# Altium integrated library Diode - Rectifier.IntLib: 777 symbols (part 7 of 12)
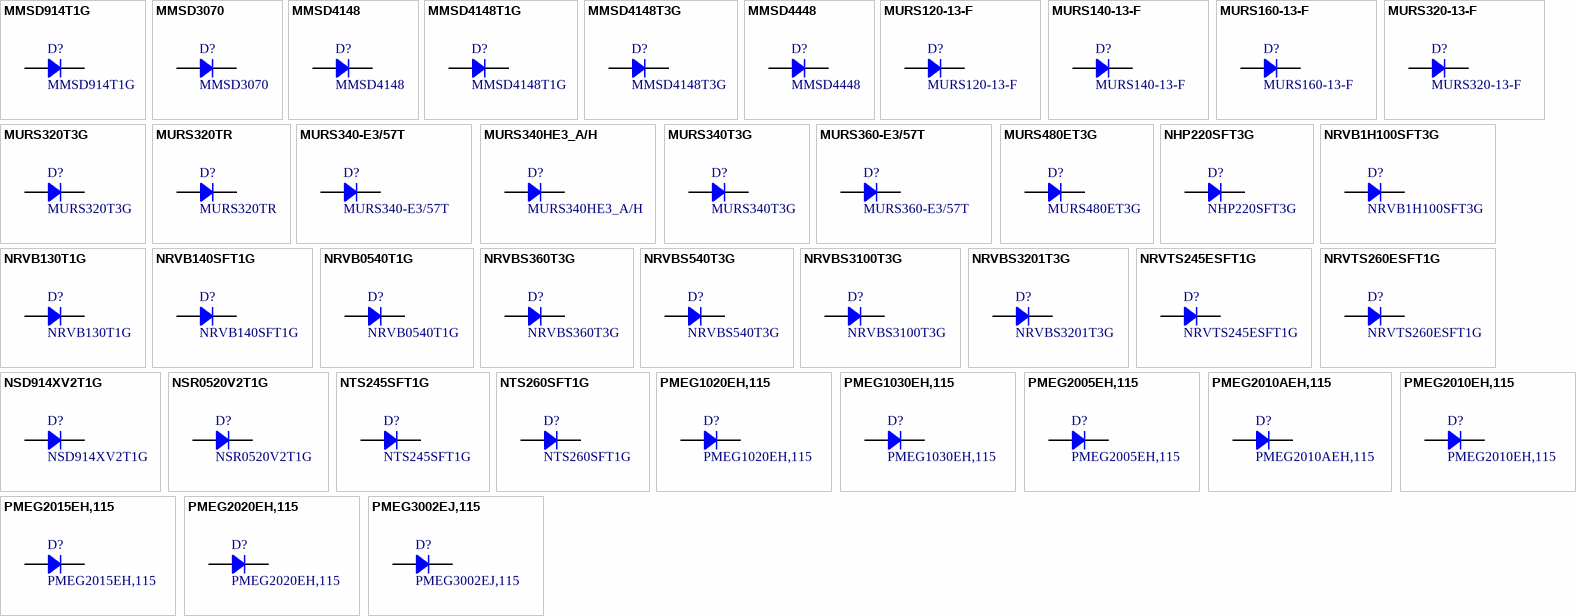
[diagram p25: symbols MMSD914T1G to PMEG3002EJ,115]

## NSD914XV2T1G
designator D?
DIODE GEN PURP 100V 200MA SOD523; Manufacturer: ON Semiconductor; Type: Surface Mount; Current Reverse Leakage @ Vr: 5uA @ 75V; Reverse Recovery Time (trr): 4ns; Current Rectified: 200mA (DC); Voltage Forward (Vf): 1V @ 10mA; Part Number: NSD914XV2T1G; PartId: 7152; Supplier 1: Digi-Key; Supplier Part Number 1: NSD914XV2T1GOSTR-ND; ComponentLink1Description: Datasheet; ComponentLink1URL: http://www.onsemi.com/pub_link/Collateral/NSD914XV2T1-D.PDF; ComponentLink2Description: Digi-Key Listing; ComponentLink2URL: http://www.digikey.ca/product-detail/en/NSD914XV2T1G/NSD914XV2T1GOSTR-ND/893857; Junction Operating Temperature: -55C ~ 150C; Price: 0.0841; Device Package: SC-79, SOD-523; Voltage DC Reverse (Vr): 100V
footprint SOD523F
pins: 1, 2

## NSR0520V2T1G
designator D?
DIODE SCHOTTKY 20V 500MA SOD523; Manufacturer: ON Semiconductor; Type: Surface Mount; Current Reverse Leakage @ Vr: 75uA @ 20V; Reverse Recovery Time (trr): 12ns; Current Rectified: 500mA (DC); Voltage Forward (Vf): 480mV @ 500mA; Part Number: NSR0520V2T1G; PartId: 7150; Supplier 1: Digi-Key; Supplier Part Number 1: NSR0520V2T1GOSTR-ND; ComponentLink1Description: Datasheet; ComponentLink1URL: http://www.onsemi.com/pub_link/Collateral/NSR0520V2T1-D.PDF; ComponentLink2Description: Digi-Key Listing; ComponentLink2URL: http://www.digikey.ca/product-detail/en/NSR0520V2T1G/NSR0520V2T1GOSTR-ND/1961244; Junction Operating Temperature: -55C ~ 125C; Price: 0.1156; Device Package: SC-79, SOD-523; Voltage DC Reverse (Vr): 20V
footprint SOD523F
pins: 1, 2

## NTS245SFT1G
designator D?
DIODE SCHOTTKY 45V 2A SOD123FL; Manufacturer: ON Semiconductor; Current Reverse Leakage @ Vr: 120uA @ 45V; Voltage Forward (Vf): 630mV @ 2A; Part Number: NTS245SFT1G; PartId: 29323; Supplier 1: Digi-Key; Supplier Part Number 1: NTS245SFT1GOSCT-ND; ComponentLink1Description: Datasheet; ComponentLink1URL: http://www.onsemi.com/pub/Collateral/NTS245SF-D.PDF; ComponentLink2Description: Digi-Key Listing; ComponentLink2URL: https://www.digikey.com/product-detail/en/on-semiconductor/NTS245SFT1G/NTS245SFT1GOSCT-ND/5131394; Junction Operating Temperature: -65C ~ 150C; Price: 0.38; Type: Schottky; Device Package: SOD-123F; Voltage DC Reverse (Vr): 45V; Current Rectified: 2A
footprint SOD123F
pins: 1, 2

## NTS260SFT1G
designator D?
DIODE SCHOTTKY 60V 2A SOD123FL; Manufacturer: ON Semiconductor; Current Reverse Leakage @ Vr: 50uA @ 45V; Voltage Forward (Vf): 650mV @ 2A; Part Number: NTS260SFT1G; PartId: 29191; Supplier 1: Digi-Key; Supplier Part Number 1: NTS260SFT1GOSCT-ND; ComponentLink1Description: Datasheet; ComponentLink1URL: http://www.onsemi.com/pub/Collateral/NTS260SF-D.PDF; ComponentLink2Description: Digi-Key Listing; ComponentLink2URL: https://www.digikey.com/product-detail/en/on-semiconductor/NTS260SFT1G/NTS260SFT1GOSCT-ND/5131395; Junction Operating Temperature: -65C ~ 150C; Price: 0.42; Type: Schottky; Device Package: SOD-123F; Voltage DC Reverse (Vr): 60V; Current Rectified: 2A
footprint SOD123F
pins: 1, 2

## PMEG1020EH,115
designator D?
DIODE SCHOTTKY 10V 2A SOD123F; Manufacturer: NXP USA Inc.; Current Reverse Leakage @ Vr: 3mA @ 10V; Current Rectified: 2A (DC); Voltage Forward (Vf): 460mV @ 2A; Part Number: PMEG1020EH,115; PartId: 29268; Supplier 1: Digi-Key; Supplier Part Number 1: 568-4105-1-ND; ComponentLink1Description: Datasheet; ComponentLink1URL: http://www.nxp.com/documents/data_sheet/PMEG1020EH_EJ.pdf; ComponentLink2Description: Digi-Key Listing; ComponentLink2URL: https://www.digikey.com/product-detail/en/nxp-usa-inc/PMEG1020EH,115/568-4105-1-ND/1589920; Junction Operating Temperature: 150C (Max); Price: 0.39; Type: Schottky; Device Package: SOD-123F; Voltage DC Reverse (Vr): 10V
footprint SOD123F
pins: 1, 2

## PMEG1030EH,115
designator D?
DIODE SCHOTTKY 10V 3A SOD123F; Manufacturer: NXP USA Inc.; Current Reverse Leakage @ Vr: 3mA @ 10V; Current Rectified: 3A (DC); Voltage Forward (Vf): 530mV @ 3A; Part Number: PMEG1030EH,115; PartId: 29222; Supplier 1: Digi-Key; Supplier Part Number 1: 568-4107-1-ND; ComponentLink1Description: Datasheet; ComponentLink1URL: http://www.nxp.com/documents/data_sheet/PMEG1030EH_EJ.pdf; ComponentLink2Description: Digi-Key Listing; ComponentLink2URL: https://www.digikey.com/product-detail/en/nxp-usa-inc/PMEG1030EH,115/568-4107-1-ND/1589922; Junction Operating Temperature: 150C (Max); Price: 0.48; Type: Schottky; Device Package: SOD-123F; Voltage DC Reverse (Vr): 10V
footprint SOD123F
pins: 1, 2

## PMEG2005EH,115
designator D?
DIODE SCHOTTKY 20V 500MA SOD123F; Manufacturer: NXP USA Inc.; Current Reverse Leakage @ Vr: 200uA @ 20V; Current Rectified: 500mA (DC); Voltage Forward (Vf): 390mV @ 500mA; Part Number: PMEG2005EH,115; PartId: 29204; Supplier 1: Digi-Key; Supplier Part Number 1: 568-4109-1-ND; ComponentLink1Description: Datasheet; ComponentLink1URL: http://www.nxp.com/documents/data_sheet/PMEGXX05EH_EJ_SER.pdf; ComponentLink2Description: Digi-Key Listing; ComponentLink2URL: https://www.digikey.com/product-detail/en/nxp-usa-inc/PMEG2005EH,115/568-4109-1-ND/1589924; Junction Operating Temperature: 150C (Max); Price: 0.44; Type: Schottky; Device Package: SOD-123F; Voltage DC Reverse (Vr): 20V
footprint SOD123F
pins: 1, 2

## PMEG2010AEH,115
designator D?
DIODE SCHOTTKY 20V 1A SOD123F; Manufacturer: NXP Semiconductors; Type: Surface Mount; Current Reverse Leakage @ Vr: 200uA @ 20V; Current Rectified: 1A (DC); Voltage Forward (Vf): 430mV @ 1A; Part Number: PMEG2010AEH,115; PartId: 7140; Supplier 1: Digi-Key; Supplier Part Number 1: 568-4112-2-ND; ComponentLink1Description: Datasheet; ComponentLink1URL: http://www.nxp.com/documents/data_sheet/PMEG2010AEH_PMEG2010AET.pdf; ComponentLink2Description: Digi-Key Listing; ComponentLink2URL: http://www.digikey.ca/product-detail/en/PMEG2010AEH,115/568-4112-2-ND/1157670; Junction Operating Temperature: 150C (Max); Price: 0.1507; Device Package: SOD-123F; Reverse Recovery Time (trr): -; Voltage DC Reverse (Vr): 20V
footprint SOD123F
pins: 1, 2

## PMEG2010EH,115
designator D?
DIODE SCHOTTKY 20V 1A SOD123F; Manufacturer: NXP USA Inc.; Current Reverse Leakage @ Vr: 200uA @ 20V; Current Rectified: 1A (DC); Voltage Forward (Vf): 500mV @ 1A; Part Number: PMEG2010EH,115; PartId: 29234; Supplier 1: Digi-Key; Supplier Part Number 1: 568-4114-1-ND; ComponentLink1Description: Datasheet; ComponentLink1URL: http://www.nxp.com/documents/data_sheet/PMEG2010EH_EJ_ET.pdf; ComponentLink2Description: Digi-Key Listing; ComponentLink2URL: https://www.digikey.com/product-detail/en/nxp-usa-inc/PMEG2010EH,115/568-4114-1-ND/1589929; Junction Operating Temperature: 150C (Max); Price: 0.38; Type: Schottky; Device Package: SOD-123F; Voltage DC Reverse (Vr): 20V
footprint SOD123F
pins: 1, 2

## PMEG2015EH,115
designator D?
DIODE SCHOTTKY 20V 1.5A SOD123F; Manufacturer: NXP USA Inc.; Current Reverse Leakage @ Vr: 70uA @ 20V; Current Rectified: 1.5A (DC); Voltage Forward (Vf): 660mV @ 1.5A; Part Number: PMEG2015EH,115; PartId: 29276; Supplier 1: Digi-Key; Supplier Part Number 1: 568-4116-1-ND; ComponentLink1Description: Datasheet; ComponentLink1URL: http://www.nxp.com/documents/data_sheet/PMEG2015EH_EJ.pdf; ComponentLink2Description: Digi-Key Listing; ComponentLink2URL: https://www.digikey.com/product-detail/en/nxp-usa-inc/PMEG2015EH,115/568-4116-1-ND/1589931; Junction Operating Temperature: 150C (Max); Price: 0.41; Type: Schottky; Device Package: SOD-123F; Voltage DC Reverse (Vr): 20V
footprint SOD123F
pins: 1, 2

## PMEG2020EH,115
designator D?
DIODE SCHOTTKY 20V 2A SOD123F; Manufacturer: NXP USA Inc.; Current Reverse Leakage @ Vr: 200uA @ 20V; Current Rectified: 2A (DC); Voltage Forward (Vf): 525mV @ 2A; Part Number: PMEG2020EH,115; PartId: 29277; Supplier 1: Digi-Key; Supplier Part Number 1: 568-4118-1-ND; ComponentLink1Description: Datasheet; ComponentLink1URL: http://www.nxp.com/documents/data_sheet/PMEG2020EH_EJ.pdf; ComponentLink2Description: Digi-Key Listing; ComponentLink2URL: https://www.digikey.com/product-detail/en/nxp-usa-inc/PMEG2020EH,115/568-4118-1-ND/1589933; Junction Operating Temperature: 150C (Max); Price: 0.41; Type: Schottky; Device Package: SOD-123F; Voltage DC Reverse (Vr): 20V
footprint SOD123F
pins: 1, 2

## PMEG3002EJ,115
designator D?
DIODE SCHOTTKY 30V 200MA SOD323F; Manufacturer: NXP Semiconductors; Type: Surface Mount; Current Reverse Leakage @ Vr: 40uA @ 30V; Reverse Recovery Time (trr): 5ns; Voltage Forward (Vf): 480mV @ 200mA; Part Number: PMEG3002EJ,115; PartId: 7141; Supplier 1: Digi-Key; Supplier Part Number 1: 568-7394-2-ND; ComponentLink1Description: Datasheet; ComponentLink1URL: http://www.nxp.com/documents/data_sheet/PMEG3002EJ.pdf; ComponentLink2Description: Digi-Key Listing; ComponentLink2URL: http://www.digikey.ca/product-detail/en/PMEG3002EJ,115/568-7394-2-ND/2119862; Junction Operating Temperature: 150C (Max); Price: 0.1204; Device Package: SC-90, SOD-323F; Voltage DC Reverse (Vr): 30V; Current Rectified: 200mA
footprint SOD323F
pins: 1, 2

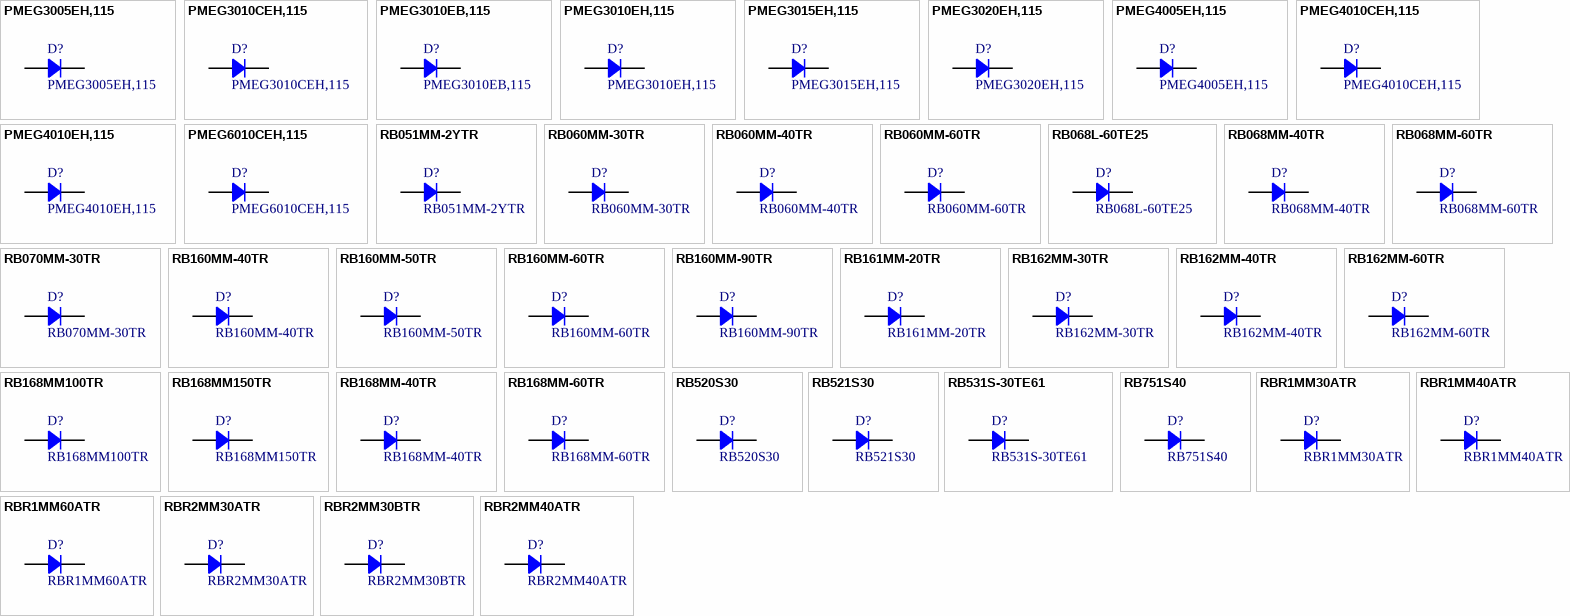
[diagram p10: symbols PMEG3005EH,115 to RBR2MM40ATR]

## PMEG3005EH,115
designator D?
DIODE SCHOTTKY 30V 500MA SOD123F; Manufacturer: NXP USA Inc.; Current Reverse Leakage @ Vr: 150uA @ 30V; Current Rectified: 500mA (DC); Voltage Forward (Vf): 430mV @ 500mA; Part Number: PMEG3005EH,115; PartId: 29205; Supplier 1: Digi-Key; Supplier Part Number 1: 568-4121-1-ND; ComponentLink1Description: Datasheet; ComponentLink1URL: http://www.nxp.com/documents/data_sheet/PMEGXX05EH_EJ_SER.pdf; ComponentLink2Description: Digi-Key Listing; ComponentLink2URL: https://www.digikey.com/product-detail/en/nxp-usa-inc/PMEG3005EH,115/568-4121-1-ND/1589936; Junction Operating Temperature: 150C (Max); Price: 0.44; Type: Schottky; Device Package: SOD-123F; Voltage DC Reverse (Vr): 30V
footprint SOD123F
pins: 1, 2

## PMEG3010CEH,115
designator D?
DIODE SCHOTTKY 30V 1A SOD123F; Manufacturer: NXP USA Inc.; Current Reverse Leakage @ Vr: 50uA @ 30V; Current Rectified: 1A (DC); Voltage Forward (Vf): 520mV @ 1A; Part Number: PMEG3010CEH,115; PartId: 29269; Supplier 1: Digi-Key; Supplier Part Number 1: 568-7399-1-ND; ComponentLink1Description: Datasheet; ComponentLink1URL: http://www.nxp.com/documents/data_sheet/PMEG3010CEH_PMEG3010CEJ.pdf; ComponentLink2Description: Digi-Key Listing; ComponentLink2URL: https://www.digikey.com/product-detail/en/nxp-usa-inc/PMEG3010CEH,115/568-7399-1-ND/2697414; Junction Operating Temperature: 150C (Max); Price: 0.39; Type: Schottky; Device Package: SOD-123F; Voltage DC Reverse (Vr): 30V
footprint SOD123F
pins: 1, 2

## PMEG3010EB,115
designator D?
DIODE SCHOTTKY 30V 1A SOD523; Manufacturer: NXP Semiconductors; Type: Surface Mount; Current Reverse Leakage @ Vr: 500uA @ 30V; Current Rectified: 1A (DC); Voltage Forward (Vf): 680mV @ 1A; Part Number: PMEG3010EB,115; PartId: 7146; Supplier 1: Digi-Key; Supplier Part Number 1: 568-7400-2-ND; ComponentLink1Description: Datasheet; ComponentLink1URL: http://www.nxp.com/documents/data_sheet/PMEG3010EB.pdf; ComponentLink2Description: Digi-Key Listing; ComponentLink2URL: http://www.digikey.ca/product-detail/en/PMEG3010EB,115/568-7400-2-ND/1693021; Junction Operating Temperature: 150C (Max); Price: 0.1547; Device Package: SC-79, SOD-523; Reverse Recovery Time (trr): -; Voltage DC Reverse (Vr): 30V
footprint SOD523F
pins: 1, 2

## PMEG3010EH,115
designator D?
DIODE SCHOTTKY 30V 1A SOD123F; Manufacturer: NXP USA Inc.; Current Reverse Leakage @ Vr: 150uA @ 30V; Current Rectified: 1A (DC); Voltage Forward (Vf): 560mV @ 1A; Part Number: PMEG3010EH,115; PartId: 29292; Supplier 1: Digi-Key; Supplier Part Number 1: 568-4125-1-ND; ComponentLink1Description: Datasheet; ComponentLink1URL: http://www.nxp.com/documents/data_sheet/PMEG3010EH_EJ_ET.pdf; ComponentLink2Description: Digi-Key Listing; ComponentLink2URL: https://www.digikey.com/product-detail/en/nxp-usa-inc/PMEG3010EH,115/568-4125-1-ND/1589940; Junction Operating Temperature: 150C (Max); Price: 0.48; Type: Schottky; Device Package: SOD-123F; Voltage DC Reverse (Vr): 30V
footprint SOD123F
pins: 1, 2

## PMEG3015EH,115
designator D?
DIODE SCHOTTKY 30V 1.5A SOD123F; Manufacturer: NXP USA Inc.; Current Reverse Leakage @ Vr: 1mA @ 30V; Current Rectified: 1.5A (DC); Voltage Forward (Vf): 550mV @ 1.5A; Part Number: PMEG3015EH,115; PartId: 29171; Supplier 1: Digi-Key; Supplier Part Number 1: 568-4127-1-ND; ComponentLink1Description: Datasheet; ComponentLink1URL: http://www.nxp.com/documents/data_sheet/PMEG3015EH_EJ.pdf; ComponentLink2Description: Digi-Key Listing; ComponentLink2URL: https://www.digikey.com/product-detail/en/nxp-usa-inc/PMEG3015EH,115/568-4127-1-ND/1589942; Junction Operating Temperature: 150C (Max); Price: 0.39; Type: Schottky; Device Package: SOD-123F; Voltage DC Reverse (Vr): 30V
footprint SOD123F
pins: 1, 2

## PMEG3020EH,115
designator D?
DIODE SCHOTTKY 30V 2A SOD123F; Manufacturer: NXP USA Inc.; Current Reverse Leakage @ Vr: 1mA @ 30V; Current Rectified: 2A (DC); Voltage Forward (Vf): 620mV @ 2A; Part Number: PMEG3020EH,115; PartId: 29218; Supplier 1: Digi-Key; Supplier Part Number 1: 568-4129-1-ND; ComponentLink1Description: Datasheet; ComponentLink1URL: http://www.nxp.com/documents/data_sheet/PMEG3020EH_EJ.pdf; ComponentLink2Description: Digi-Key Listing; ComponentLink2URL: https://www.digikey.com/product-detail/en/nxp-usa-inc/PMEG3020EH,115/568-4129-1-ND/1589944; Junction Operating Temperature: 150C (Max); Price: 0.41; Type: Schottky; Device Package: SOD-123F; Voltage DC Reverse (Vr): 30V
footprint SOD123F
pins: 1, 2

## PMEG4005EH,115
designator D?
DIODE SCHOTTKY 40V 500MA SOD123F; Manufacturer: NXP USA Inc.; Current Reverse Leakage @ Vr: 100uA @ 40V; Current Rectified: 500mA (DC); Voltage Forward (Vf): 470mV @ 500mA; Part Number: PMEG4005EH,115; PartId: 29285; Supplier 1: Digi-Key; Supplier Part Number 1: 568-4132-1-ND; ComponentLink1Description: Datasheet; ComponentLink1URL: http://www.nxp.com/documents/data_sheet/PMEGXX05EH_EJ_SER.pdf; ComponentLink2Description: Digi-Key Listing; ComponentLink2URL: https://www.digikey.com/product-detail/en/nxp-usa-inc/PMEG4005EH,115/568-4132-1-ND/1589947; Junction Operating Temperature: 150C (Max); Price: 0.44; Type: Schottky; Device Package: SOD-123F; Voltage DC Reverse (Vr): 40V
footprint SOD123F
pins: 1, 2

## PMEG4010CEH,115
designator D?
DIODE SCHOTTKY 40V 1A SOD123F; Manufacturer: NXP USA Inc.; Current Reverse Leakage @ Vr: 50uA @ 40V; Current Rectified: 1A (DC); Voltage Forward (Vf): 570mV @ 1A; Part Number: PMEG4010CEH,115; PartId: 29213; Supplier 1: Digi-Key; Supplier Part Number 1: 568-4102-1-ND; ComponentLink1Description: Datasheet; ComponentLink1URL: http://www.nxp.com/documents/data_sheet/PMEG4010CEH_PMEG4010CEJ.pdf; ComponentLink2Description: Digi-Key Listing; ComponentLink2URL: https://www.digikey.com/product-detail/en/nxp-usa-inc/PMEG4010CEH,115/568-4102-1-ND/1589915; Junction Operating Temperature: 150C (Max); Price: 0.39; Type: Schottky; Device Package: SOD-123F; Voltage DC Reverse (Vr): 40V
footprint SOD123F
pins: 1, 2

## PMEG4010EH,115
designator D?
DIODE SCHOTTKY 40V 1A SOD123F; Manufacturer: NXP USA Inc.; Current Reverse Leakage @ Vr: 100uA @ 40V; Current Rectified: 1A (DC); Voltage Forward (Vf): 640mV @ 1A; Part Number: PMEG4010EH,115; PartId: 29293; Supplier 1: Digi-Key; Supplier Part Number 1: 568-4136-1-ND; ComponentLink1Description: Datasheet; ComponentLink1URL: http://www.nxp.com/documents/data_sheet/PMEG4010EH_EJ_ET.pdf; ComponentLink2Description: Digi-Key Listing; ComponentLink2URL: https://www.digikey.com/product-detail/en/nxp-usa-inc/PMEG4010EH,115/568-4136-1-ND/1589951; Junction Operating Temperature: 150C (Max); Price: 0.48; Type: Schottky; Device Package: SOD-123F; Voltage DC Reverse (Vr): 40V
footprint SOD123F
pins: 1, 2

## PMEG6010CEH,115
designator D?
DIODE SCHOTTKY 60V 1A SOD123F; Manufacturer: NXP USA Inc.; Current Reverse Leakage @ Vr: 50uA @ 60V; Current Rectified: 1A (DC); Voltage Forward (Vf): 660mV @ 1A; Part Number: PMEG6010CEH,115; PartId: 29169; Supplier 1: Digi-Key; Supplier Part Number 1: 568-4104-1-ND; ComponentLink1Description: Datasheet; ComponentLink1URL: http://www.nxp.com/documents/data_sheet/PMEG6010CEH_PMEG6010CEJ.pdf; ComponentLink2Description: Digi-Key Listing; ComponentLink2URL: https://www.digikey.com/product-detail/en/nxp-usa-inc/PMEG6010CEH,115/568-4104-1-ND/1589917; Junction Operating Temperature: 150C (Max); Price: 0.38; Type: Schottky; Device Package: SOD-123F; Voltage DC Reverse (Vr): 60V
footprint SOD123F
pins: 1, 2

## RB051MM-2YTR
designator D?
DIODE SCHOTTKY 20V 3A PMDU; Manufacturer: Rohm Semiconductor; Current Reverse Leakage @ Vr: 900uA @ 20V; Voltage Forward (Vf): 460mV @ 3A; Part Number: RB051MM-2YTR; PartId: 29249; Supplier 1: Digi-Key; Supplier Part Number 1: RB051MM-2YCT-ND; ComponentLink1Description: Datasheet; ComponentLink1URL: http://rohmfs.rohm.com/en/products/databook/datasheet/discrete/diode/schottky_barrier/rb051mm-2y.pdf; ComponentLink2Description: Digi-Key Listing; ComponentLink2URL: https://www.digikey.com/product-detail/en/rohm-semiconductor/RB051MM-2YTR/RB051MM-2YCT-ND/5813351; Junction Operating Temperature: 125C (Max); Price: 0.53; Type: Schottky; Device Package: SOD-123F; Voltage DC Reverse (Vr): 20V; Current Rectified: 3A
footprint SOD123F
pins: 1, 2

## RB060MM-30TR
designator D?
DIODE SCHOTTKY 30V 2A PMDU; Manufacturer: Rohm Semiconductor; Current Reverse Leakage @ Vr: 50uA @ 30V; Voltage Forward (Vf): 490mV @ 2A; Part Number: RB060MM-30TR; PartId: 29296; Supplier 1: Digi-Key; Supplier Part Number 1: RB060MM-30CT-ND; ComponentLink1Description: Datasheet; ComponentLink1URL: http://rohmfs.rohm.com/en/products/databook/datasheet/discrete/diode/schottky_barrier/rb060mm-30.pdf; ComponentLink2Description: Digi-Key Listing; ComponentLink2URL: https://www.digikey.com/product-detail/en/rohm-semiconductor/RB060MM-30TR/RB060MM-30CT-ND/5001874; Junction Operating Temperature: 150C (Max); Price: 0.5; Type: Schottky; Device Package: SOD-123F; Voltage DC Reverse (Vr): 30V; Current Rectified: 2A
footprint SOD123F
pins: 1, 2

## RB060MM-40TR
designator D?
DIODE SCHOTTKY 40V 2A PMDU; Manufacturer: Rohm Semiconductor; Current Reverse Leakage @ Vr: 500uA @ 40V; Voltage Forward (Vf): 560mV @ 2A; Part Number: RB060MM-40TR; PartId: 29248; Supplier 1: Digi-Key; Supplier Part Number 1: RB060MM-40CT-ND; ComponentLink1Description: Datasheet; ComponentLink1URL: http://rohmfs.rohm.com/en/products/databook/datasheet/discrete/diode/schottky_barrier/rb060mm-40.pdf; ComponentLink2Description: Digi-Key Listing; ComponentLink2URL: https://www.digikey.com/product-detail/en/rohm-semiconductor/RB060MM-40TR/RB060MM-40CT-ND/5813357; Junction Operating Temperature: 150C (Max); Price: 0.45; Type: Schottky; Device Package: SOD-123F; Voltage DC Reverse (Vr): 40V; Current Rectified: 2A
footprint SOD123F
pins: 1, 2

## RB060MM-60TR
designator D?
DIODE SCHOTTKY 60V 2A PMDU; Manufacturer: Rohm Semiconductor; Current Reverse Leakage @ Vr: 50uA @ 60V; Voltage Forward (Vf): 610mV @ 2A; Part Number: RB060MM-60TR; PartId: 29696; Supplier 1: Digi-Key; Supplier Part Number 1: RB060MM-60CT-ND; ComponentLink1Description: Datasheet; ComponentLink1URL: http://rohmfs.rohm.com/en/products/databook/datasheet/discrete/diode/schottky_barrier/rb060mm-60.pdf; ComponentLink2Description: Digi-Key Listing; ComponentLink2URL: https://www.digikey.com/product-detail/en/rohm-semiconductor/RB060MM-60TR/RB060MM-60CT-ND/5001875; Junction Operating Temperature: 150C (Max); Price: 0.41; Type: Schottky; Device Package: SOD-123F; Voltage DC Reverse (Vr): 60V; Current Rectified: 2A
footprint SOD123F
pins: 1, 2

## RB068L-60TE25
designator D?
DIODE SCHOTTKY 60V 2A PMDU; Manufacturer: Rohm Semiconductor; Current Reverse Leakage @ Vr: 2uA @ 60V; Voltage Forward (Vf): 700mV @ 2A; Part Number: RB068L-60TE25; PartId: 29327; Supplier 1: Digi-Key; Supplier Part Number 1: RB068L-60TE25CT-ND; ComponentLink1Description: Datasheet; ComponentLink1URL: http://rohmfs.rohm.com/en/products/databook/datasheet/discrete/diode/schottky_barrier/rb068l-60.pdf; ComponentLink2Description: Digi-Key Listing; ComponentLink2URL: https://www.digikey.com/product-detail/en/rohm-semiconductor/RB068L-60TE25/RB068L-60TE25CT-ND/5813358; Junction Operating Temperature: 150C (Max); Price: 0.43; Type: Schottky; Device Package: SOD-123F; Voltage DC Reverse (Vr): 60V; Current Rectified: 2A
footprint SOD123F
pins: 1, 2

## RB068MM-40TR
designator D?
DIODE SCHOTTKY 40V 2A PMDU; Manufacturer: Rohm Semiconductor; Current Reverse Leakage @ Vr: 550nA @ 40V; Voltage Forward (Vf): 725mV @ 2A; Part Number: RB068MM-40TR; PartId: 29313; Supplier 1: Digi-Key; Supplier Part Number 1: RB068MM-40CT-ND; ComponentLink1Description: Datasheet; ComponentLink1URL: http://rohmfs.rohm.com/en/products/databook/datasheet/discrete/diode/schottky_barrier/rb068mm-40.pdf; ComponentLink2Description: Digi-Key Listing; ComponentLink2URL: https://www.digikey.com/product-detail/en/rohm-semiconductor/RB068MM-40TR/RB068MM-40CT-ND/5813361; Junction Operating Temperature: 150C (Max); Price: 0.55; Type: Schottky; Device Package: SOD-123F; Voltage DC Reverse (Vr): 40V; Current Rectified: 2A
footprint SOD123F
pins: 1, 2

## RB068MM-60TR
designator D?
DIODE SCHOTTKY 60V 2A PMDU; Manufacturer: Rohm Semiconductor; Current Reverse Leakage @ Vr: 1.5uA @ 60V; Voltage Forward (Vf): 765mV @ 2A; Part Number: RB068MM-60TR; PartId: 29312; Supplier 1: Digi-Key; Supplier Part Number 1: RB068MM-60CT-ND; ComponentLink1Description: Datasheet; ComponentLink1URL: http://rohmfs.rohm.com/en/products/databook/datasheet/discrete/diode/schottky_barrier/rb068mm-60.pdf; ComponentLink2Description: Digi-Key Listing; ComponentLink2URL: https://www.digikey.com/product-detail/en/rohm-semiconductor/RB068MM-60TR/RB068MM-60CT-ND/5813362; Junction Operating Temperature: 150C (Max); Price: 0.55; Type: Schottky; Device Package: SOD-123F; Voltage DC Reverse (Vr): 60V; Current Rectified: 2A
footprint SOD123F
pins: 1, 2

## RB070MM-30TR
designator D?
DIODE SCHOTTKY 30V 1.5A PMDU; Manufacturer: Rohm Semiconductor; Current Reverse Leakage @ Vr: 50uA @ 30V; Voltage Forward (Vf): 490mV @ 1.5A; Part Number: RB070MM-30TR; PartId: 29228; Supplier 1: Digi-Key; Supplier Part Number 1: RB070MM-30CT-ND; ComponentLink1Description: Datasheet; ComponentLink1URL: http://rohmfs.rohm.com/en/products/databook/datasheet/discrete/diode/schottky_barrier/rb070mm-30.pdf; ComponentLink2Description: Digi-Key Listing; ComponentLink2URL: https://www.digikey.com/product-detail/en/rohm-semiconductor/RB070MM-30TR/RB070MM-30CT-ND/5001876; Junction Operating Temperature: 150C (Max); Price: 0.41; Type: Schottky; Device Package: SOD-123F; Voltage DC Reverse (Vr): 30V; Current Rectified: 1.5A
footprint SOD123F
pins: 1, 2

## RB160MM-40TR
designator D?
DIODE SCHOTTKY 40V 1A PMDU; Manufacturer: Rohm Semiconductor; Current Reverse Leakage @ Vr: 30uA @ 40V; Voltage Forward (Vf): 510mV @ 1A; Part Number: RB160MM-40TR; PartId: 29295; Supplier 1: Digi-Key; Supplier Part Number 1: RB160MM-40CT-ND; ComponentLink1Description: Datasheet; ComponentLink1URL: http://rohmfs.rohm.com/en/products/databook/datasheet/discrete/diode/schottky_barrier/rb160mm-40.pdf; ComponentLink2Description: Digi-Key Listing; ComponentLink2URL: https://www.digikey.com/product-detail/en/rohm-semiconductor/RB160MM-40TR/RB160MM-40CT-ND/5001878; Junction Operating Temperature: 150C (Max); Price: 0.49; Type: Schottky; Device Package: SOD-123F; Voltage DC Reverse (Vr): 40V; Current Rectified: 1A
footprint SOD123F
pins: 1, 2

## RB160MM-50TR
designator D?
DIODE SCHOTTKY 40V 1A PMDU; Manufacturer: Rohm Semiconductor; Current Reverse Leakage @ Vr: 30uA @ 40V; Voltage Forward (Vf): 510mV @ 1A; Part Number: RB160MM-50TR; PartId: 29283; Supplier 1: Digi-Key; Supplier Part Number 1: RB160MM-50CT-ND; ComponentLink1Description: Datasheet; ComponentLink1URL: http://rohmfs.rohm.com/en/products/databook/datasheet/discrete/diode/schottky_barrier/rb160mm-50.pdf; ComponentLink2Description: Digi-Key Listing; ComponentLink2URL: https://www.digikey.com/product-detail/en/rohm-semiconductor/RB160MM-50TR/RB160MM-50CT-ND/5001879; Junction Operating Temperature: 150C (Max); Price: 0.43; Type: Schottky; Device Package: SOD-123F; Voltage DC Reverse (Vr): 40V; Current Rectified: 1A
footprint SOD123F
pins: 1, 2

## RB160MM-60TR
designator D?
DIODE SCHOTTKY 60V 1A PMDU; Manufacturer: Rohm Semiconductor; Current Reverse Leakage @ Vr: 50uA @ 60V; Voltage Forward (Vf): 550mV @ 1A; Part Number: RB160MM-60TR; PartId: 29192; Supplier 1: Digi-Key; Supplier Part Number 1: RB160MM-60CT-ND; ComponentLink1Description: Datasheet; ComponentLink1URL: http://rohmfs.rohm.com/en/products/databook/datasheet/discrete/diode/schottky_barrier/rb160mm-60.pdf; ComponentLink2Description: Digi-Key Listing; ComponentLink2URL: https://www.digikey.com/product-detail/en/rohm-semiconductor/RB160MM-60TR/RB160MM-60CT-ND/5001880; Junction Operating Temperature: 150C (Max); Price: 0.49; Type: Schottky; Device Package: SOD-123F; Voltage DC Reverse (Vr): 60V; Current Rectified: 1A
footprint SOD123F
pins: 1, 2

## RB160MM-90TR
designator D?
DIODE SCHOTTKY 90V 1A PMDU; Manufacturer: Rohm Semiconductor; Current Reverse Leakage @ Vr: 100uA @ 90V; Voltage Forward (Vf): 730mV @ 1A; Part Number: RB160MM-90TR; PartId: 29239; Supplier 1: Digi-Key; Supplier Part Number 1: RB160MM-90TRCT-ND; ComponentLink1Description: Datasheet; ComponentLink1URL: http://rohmfs.rohm.com/en/products/databook/datasheet/discrete/diode/schottky_barrier/rb160mm-90.pdf; ComponentLink2Description: Digi-Key Listing; ComponentLink2URL: https://www.digikey.com/product-detail/en/rohm-semiconductor/RB160MM-90TR/RB160MM-90TRCT-ND/5720306; Junction Operating Temperature: 150C (Max); Price: 0.55; Type: Schottky; Device Package: SOD-123F; Voltage DC Reverse (Vr): 90V; Current Rectified: 1A
footprint SOD123F
pins: 1, 2

## RB161MM-20TR
designator D?
DIODE SCHOTTKY 25V 1A PMDU; Manufacturer: Rohm Semiconductor; Current Reverse Leakage @ Vr: 700uA @ 20V; Voltage Forward (Vf): 350mV @ 1A; Part Number: RB161MM-20TR; PartId: 29196; Supplier 1: Digi-Key; Supplier Part Number 1: RB161MM-20CT-ND; ComponentLink1Description: Datasheet; ComponentLink1URL: http://rohmfs.rohm.com/en/products/databook/datasheet/discrete/diode/schottky_barrier/rb161mm-20.pdf; ComponentLink2Description: Digi-Key Listing; ComponentLink2URL: https://www.digikey.com/product-detail/en/rohm-semiconductor/RB161MM-20TR/RB161MM-20CT-ND/5001881; Junction Operating Temperature: 125C (Max); Price: 0.53; Type: Schottky; Device Package: SOD-123F; Voltage DC Reverse (Vr): 25V; Current Rectified: 1A
footprint SOD123F
pins: 1, 2

## RB162MM-30TR
designator D?
DIODE SCHOTTKY 30V 1A PMDU; Manufacturer: Rohm Semiconductor; Current Reverse Leakage @ Vr: 100uA @ 30V; Voltage Forward (Vf): 520mV @ 1A; Part Number: RB162MM-30TR; PartId: 29314; Supplier 1: Digi-Key; Supplier Part Number 1: RB162MM-30CT-ND; ComponentLink1Description: Datasheet; ComponentLink1URL: http://rohmfs.rohm.com/en/products/databook/datasheet/discrete/diode/schottky_barrier/rb162mm-30.pdf; ComponentLink2Description: Digi-Key Listing; ComponentLink2URL: https://www.digikey.com/product-detail/en/rohm-semiconductor/RB162MM-30TR/RB162MM-30CT-ND/5720307; Junction Operating Temperature: 150C (Max); Price: 0.56; Type: Schottky; Device Package: SOD-123F; Voltage DC Reverse (Vr): 30V; Current Rectified: 1A
footprint SOD123F
pins: 1, 2

## RB162MM-40TR
designator D?
DIODE SCHOTTKY 40V 1A PMDU; Manufacturer: Rohm Semiconductor; Current Reverse Leakage @ Vr: 100uA @ 40V; Voltage Forward (Vf): 550mV @ 1A; Part Number: RB162MM-40TR; PartId: 29257; Supplier 1: Digi-Key; Supplier Part Number 1: RB162MM-40CT-ND; ComponentLink1Description: Datasheet; ComponentLink1URL: http://rohmfs.rohm.com/en/products/databook/datasheet/discrete/diode/schottky_barrier/rb162mm-40.pdf; ComponentLink2Description: Digi-Key Listing; ComponentLink2URL: https://www.digikey.com/product-detail/en/rohm-semiconductor/RB162MM-40TR/RB162MM-40CT-ND/5001882; Junction Operating Temperature: 150C (Max); Price: 0.35; Type: Schottky; Device Package: SOD-123F; Voltage DC Reverse (Vr): 40V; Current Rectified: 1A
footprint SOD123F
pins: 1, 2

## RB162MM-60TR
designator D?
DIODE SCHOTTKY 60V 1A PMDU; Manufacturer: Rohm Semiconductor; Current Reverse Leakage @ Vr: 100uA @ 60V; Voltage Forward (Vf): 650mV @ 1A; Part Number: RB162MM-60TR; PartId: 29262; Supplier 1: Digi-Key; Supplier Part Number 1: RB162MM-60CT-ND; ComponentLink1Description: Datasheet; ComponentLink1URL: http://rohmfs.rohm.com/en/products/databook/datasheet/discrete/diode/schottky_barrier/rb162mm-60.pdf; ComponentLink2Description: Digi-Key Listing; ComponentLink2URL: https://www.digikey.com/product-detail/en/rohm-semiconductor/RB162MM-60TR/RB162MM-60CT-ND/5001883; Junction Operating Temperature: 150C (Max); Price: 0.37; Type: Schottky; Device Package: SOD-123F; Voltage DC Reverse (Vr): 60V; Current Rectified: 1A
footprint SOD123F
pins: 1, 2

## RB168MM100TR
designator D?
DIODE SCHOTTKY 100V 1A SOD123FL; Manufacturer: Rohm Semiconductor; Current Reverse Leakage @ Vr: 400nA @ 100V; Voltage Forward (Vf): 810mV @ 1A; Part Number: RB168MM100TR; PartId: 29202; Supplier 1: Digi-Key; Supplier Part Number 1: RB168MM100CT-ND; ComponentLink1Description: Datasheet; ComponentLink1URL: http://rohmfs.rohm.com/en/products/databook/datasheet/discrete/diode/schottky_barrier/rb168mm100.pdf; ComponentLink2Description: Digi-Key Listing; ComponentLink2URL: https://www.digikey.com/product-detail/en/rohm-semiconductor/RB168MM100TR/RB168MM100CT-ND/5722695; Junction Operating Temperature: 150C (Max); Price: 0.49; Type: Schottky; Device Package: SOD-123F; Voltage DC Reverse (Vr): 100V; Current Rectified: 1A
footprint SOD123F
pins: 1, 2

## RB168MM150TR
designator D?
DIODE SCHOTTKY 150V 1A PMDU; Manufacturer: Rohm Semiconductor; Current Reverse Leakage @ Vr: 4uA @ 150V; Voltage Forward (Vf): 840mV @ 1A; Part Number: RB168MM150TR; PartId: 29299; Supplier 1: Digi-Key; Supplier Part Number 1: RB168MM150CT-ND; ComponentLink1Description: Datasheet; ComponentLink1URL: http://rohmfs.rohm.com/en/products/databook/datasheet/discrete/diode/schottky_barrier/rb168mm150.pdf; ComponentLink2Description: Digi-Key Listing; ComponentLink2URL: https://www.digikey.com/product-detail/en/rohm-semiconductor/RB168MM150TR/RB168MM150CT-ND/5813364; Junction Operating Temperature: 150C (Max); Price: 0.51; Type: Schottky; Device Package: SOD-123F; Voltage DC Reverse (Vr): 150V; Current Rectified: 1A
footprint SOD123F
pins: 1, 2

## RB168MM-40TR
designator D?
DIODE SCHOTTKY 40V 1A PMDU; Manufacturer: Rohm Semiconductor; Current Reverse Leakage @ Vr: 550nA @ 40V; Voltage Forward (Vf): 650mV @ 1A; Part Number: RB168MM-40TR; PartId: 29297; Supplier 1: Digi-Key; Supplier Part Number 1: RB168MM-40CT-ND; ComponentLink1Description: Datasheet; ComponentLink1URL: http://rohmfs.rohm.com/en/products/databook/datasheet/discrete/diode/schottky_barrier/rb168mm-40.pdf; ComponentLink2Description: Digi-Key Listing; ComponentLink2URL: https://www.digikey.com/product-detail/en/rohm-semiconductor/RB168MM-40TR/RB168MM-40CT-ND/5720312; Junction Operating Temperature: 150C (Max); Price: 0.51; Type: Schottky; Device Package: SOD-123F; Voltage DC Reverse (Vr): 40V; Current Rectified: 1A
footprint SOD123F
pins: 1, 2

## RB168MM-60TR
designator D?
DIODE SCHOTTKY 60V 1A PMDU; Manufacturer: Rohm Semiconductor; Current Reverse Leakage @ Vr: 1.5uA @ 60V; Voltage Forward (Vf): 680mV @ 1A; Part Number: RB168MM-60TR; PartId: 29298; Supplier 1: Digi-Key; Supplier Part Number 1: RB168MM-60CT-ND; ComponentLink1Description: Datasheet; ComponentLink1URL: http://rohmfs.rohm.com/en/products/databook/datasheet/discrete/diode/schottky_barrier/rb168mm-60.pdf; ComponentLink2Description: Digi-Key Listing; ComponentLink2URL: https://www.digikey.com/product-detail/en/rohm-semiconductor/RB168MM-60TR/RB168MM-60CT-ND/5813365; Junction Operating Temperature: 150C (Max); Price: 0.51; Type: Schottky; Device Package: SOD-123F; Voltage DC Reverse (Vr): 60V; Current Rectified: 1A
footprint SOD123F
pins: 1, 2

## RB520S30
designator D?
DIODE SCHOTTKY 30V 200MA SOD523F; Manufacturer: Fairchild Semiconductor; Type: Surface Mount; Current Reverse Leakage @ Vr: 1uA @ 10V; Voltage Forward (Vf): 600mV @ 200mA; Part Number: RB520S30; PartId: 7142; Supplier 1: Digi-Key; Supplier Part Number 1: RB520S30TR-ND; ComponentLink1Description: Datasheet; ComponentLink1URL: http://www.fairchildsemi.com/datasheets/RB/RB520S30.pdf; ComponentLink2Description: Digi-Key Listing; ComponentLink2URL: http://www.digikey.ca/product-detail/en/RB520S30/RB520S30TR-ND/1955134; Junction Operating Temperature: -55C ~ 125C; Price: 0.0455; Device Package: SC-79, SOD-523F; Reverse Recovery Time (trr): -; Voltage DC Reverse (Vr): 30V; Current Rectified: 200mA
footprint SOD523F
pins: 1, 2

## RB521S30
designator D?
DIODE SCHOTTKY 30V 200MA SOD523F; Manufacturer: Fairchild Semiconductor; Type: Surface Mount; Current Reverse Leakage @ Vr: 30uA @ 10V; Voltage Forward (Vf): 500mV @ 200mA; Part Number: RB521S30; PartId: 7144; Supplier 1: Digi-Key; Supplier Part Number 1: RB521S30TR-ND; ComponentLink1Description: Datasheet; ComponentLink1URL: http://www.fairchildsemi.com/datasheets/RB/RB521S30.pdf; ComponentLink2Description: Digi-Key Listing; ComponentLink2URL: http://www.digikey.ca/product-detail/en/RB521S30/RB521S30TR-ND/1955135; Junction Operating Temperature: -55C ~ 125C; Price: 0.0455; Device Package: SC-79, SOD-523F; Reverse Recovery Time (trr): -; Voltage DC Reverse (Vr): 30V; Current Rectified: 200mA
footprint SOD523F
pins: 1, 2

## RB531S-30TE61
designator D?
DIODE SCHOTTKY 30V 100MA EMD2; Manufacturer: Rohm Semiconductor; Type: Surface Mount; Current Reverse Leakage @ Vr: 10uA @ 10V; Voltage Forward (Vf): 350mV @ 10mA; Part Number: RB531S-30TE61; PartId: 7148; Supplier 1: Digi-Key; Supplier Part Number 1: RB531S-30TE61TR-ND; ComponentLink1Description: Datasheet; ComponentLink1URL: http://rohmfs.rohm.com/en/products/databook/datasheet/discrete/diode/schottky_barrier/rb531s-30.pdf; ComponentLink2Description: Digi-Key Listing; ComponentLink2URL: http://www.digikey.ca/product-detail/en/RB531S-30TE61/RB531S-30TE61TR-ND/2615623; Junction Operating Temperature: 125C (Max); Price: 0.0915; Device Package: SC-79, SOD-523; Reverse Recovery Time (trr): -; Voltage DC Reverse (Vr): 30V; Current Rectified: 100mA
footprint SOD523F
pins: 1, 2

## RB751S40
designator D?
DIODE SCHOTTKY 40V 30MA SOD523F; Manufacturer: Fairchild Semiconductor; Type: Surface Mount; Current Reverse Leakage @ Vr: 500nA @ 10V; Voltage Forward (Vf): 370mV @ 1mA; Part Number: RB751S40; PartId: 7143; Supplier 1: Digi-Key; Supplier Part Number 1: RB751S40TR-ND; ComponentLink1Description: Datasheet; ComponentLink1URL: http://www.fairchildsemi.com/datasheets/RB/RB751S40.pdf; ComponentLink2Description: Digi-Key Listing; ComponentLink2URL: http://www.digikey.ca/product-detail/en/RB751S40/RB751S40TR-ND/1955136; Junction Operating Temperature: -55C ~ 125C; Price: 0.0455; Device Package: SC-79, SOD-523F; Reverse Recovery Time (trr): -; Voltage DC Reverse (Vr): 40V; Current Rectified: 30mA
footprint SOD523F
pins: 1, 2

## RBR1MM30ATR
designator D?
DIODE SCHOTTKY 30V 1A PMDU; Manufacturer: Rohm Semiconductor; Current Reverse Leakage @ Vr: 50uA @ 30V; Voltage Forward (Vf): 480mV @ 1A; Part Number: RBR1MM30ATR; PartId: 29303; Supplier 1: Digi-Key; Supplier Part Number 1: RBR1MM30ACT-ND; ComponentLink1Description: Datasheet; ComponentLink1URL: http://rohmfs.rohm.com/en/products/databook/datasheet/discrete/diode/schottky_barrier/rbr1mm30a.pdf; ComponentLink2Description: Digi-Key Listing; ComponentLink2URL: https://www.digikey.com/product-detail/en/rohm-semiconductor/RBR1MM30ATR/RBR1MM30ACT-ND/5813369; Junction Operating Temperature: 150C (Max); Price: 0.52; Type: Schottky; Device Package: SOD-123F; Voltage DC Reverse (Vr): 30V; Current Rectified: 1A
footprint SOD123F
pins: 1, 2

## RBR1MM40ATR
designator D?
DIODE SCHOTTKY 40V 1A PMDU; Manufacturer: Rohm Semiconductor; Current Reverse Leakage @ Vr: 50uA @ 40V; Voltage Forward (Vf): 520mV @ 1A; Part Number: RBR1MM40ATR; PartId: 29301; Supplier 1: Digi-Key; Supplier Part Number 1: RBR1MM40ACT-ND; ComponentLink1Description: Datasheet; ComponentLink1URL: http://rohmfs.rohm.com/en/products/databook/datasheet/discrete/diode/schottky_barrier/rbr1mm40a.pdf; ComponentLink2Description: Digi-Key Listing; ComponentLink2URL: https://www.digikey.com/product-detail/en/rohm-semiconductor/RBR1MM40ATR/RBR1MM40ACT-ND/5813370; Junction Operating Temperature: 150C (Max); Price: 0.52; Type: Schottky; Device Package: SOD-123F; Voltage DC Reverse (Vr): 40V; Current Rectified: 1A
footprint SOD123F
pins: 1, 2

## RBR1MM60ATR
designator D?
DIODE SCHOTTKY 60V 1A PMDU; Manufacturer: Rohm Semiconductor; Current Reverse Leakage @ Vr: 75uA @ 60V; Voltage Forward (Vf): 530mV @ 1A; Part Number: RBR1MM60ATR; PartId: 29695; Supplier 1: Digi-Key; Supplier Part Number 1: RBR1MM60ACT-ND; ComponentLink1Description: Datasheet; ComponentLink1URL: http://rohmfs.rohm.com/en/products/databook/datasheet/discrete/diode/schottky_barrier/rbr1mm60a.pdf; ComponentLink2Description: Digi-Key Listing; ComponentLink2URL: https://www.digikey.com/product-detail/en/rohm-semiconductor/RBR1MM60ATR/RBR1MM60ACT-ND/5813371; Junction Operating Temperature: 150C (Max); Price: 0.52; Type: Schottky; Device Package: SOD-123F; Voltage DC Reverse (Vr): 60V; Current Rectified: 1A
footprint SOD123F
pins: 1, 2

## RBR2MM30ATR
designator D?
DIODE SCHOTTKY 30V 2A PMDU; Manufacturer: Rohm Semiconductor; Current Reverse Leakage @ Vr: 50uA @ 30V; Voltage Forward (Vf): 530mV @ 2A; Part Number: RBR2MM30ATR; PartId: 29241; Supplier 1: Digi-Key; Supplier Part Number 1: RBR2MM30ACT-ND; ComponentLink1Description: Datasheet; ComponentLink1URL: http://rohmfs.rohm.com/en/products/databook/datasheet/discrete/diode/schottky_barrier/rbr2mm30a.pdf; ComponentLink2Description: Digi-Key Listing; ComponentLink2URL: https://www.digikey.com/product-detail/en/rohm-semiconductor/RBR2MM30ATR/RBR2MM30ACT-ND/5813376; Junction Operating Temperature: 150C (Max); Price: 0.53; Type: Schottky; Device Package: SOD-123F; Voltage DC Reverse (Vr): 30V; Current Rectified: 2A
footprint SOD123F
pins: 1, 2

## RBR2MM30BTR
designator D?
DIODE SCHOTTKY 30V 2A PMDU; Manufacturer: Rohm Semiconductor; Current Reverse Leakage @ Vr: 80uA @ 30V; Voltage Forward (Vf): 490mV @ 2A; Part Number: RBR2MM30BTR; PartId: 29339; Supplier 1: Digi-Key; Supplier Part Number 1: RBR2MM30BCT-ND; ComponentLink1Description: Datasheet; ComponentLink1URL: http://rohmfs.rohm.com/en/products/databook/datasheet/discrete/diode/schottky_barrier/rbr2mm30b.pdf; ComponentLink2Description: Digi-Key Listing; ComponentLink2URL: https://www.digikey.com/product-detail/en/rohm-semiconductor/RBR2MM30BTR/RBR2MM30BCT-ND/5813377; Junction Operating Temperature: 150C (Max); Price: 0.55; Type: Schottky; Device Package: SOD-123F; Voltage DC Reverse (Vr): 30V; Current Rectified: 2A
footprint SOD123F
pins: 1, 2

## RBR2MM40ATR
designator D?
DIODE SCHOTTKY 40V 2A PMDU; Manufacturer: Rohm Semiconductor; Current Reverse Leakage @ Vr: 50uA @ 40V; Voltage Forward (Vf): 620mV @ 2A; Part Number: RBR2MM40ATR; PartId: 29306; Supplier 1: Digi-Key; Supplier Part Number 1: RBR2MM40ACT-ND; ComponentLink1Description: Datasheet; ComponentLink1URL: http://rohmfs.rohm.com/en/products/databook/datasheet/discrete/diode/schottky_barrier/rbr2mm40a.pdf; ComponentLink2Description: Digi-Key Listing; ComponentLink2URL: https://www.digikey.com/product-detail/en/rohm-semiconductor/RBR2MM40ATR/RBR2MM40ACT-ND/5813378; Junction Operating Temperature: 150C (Max); Price: 0.53; Type: Schottky; Device Package: SOD-123F; Voltage DC Reverse (Vr): 40V; Current Rectified: 2A
footprint SOD123F
pins: 1, 2

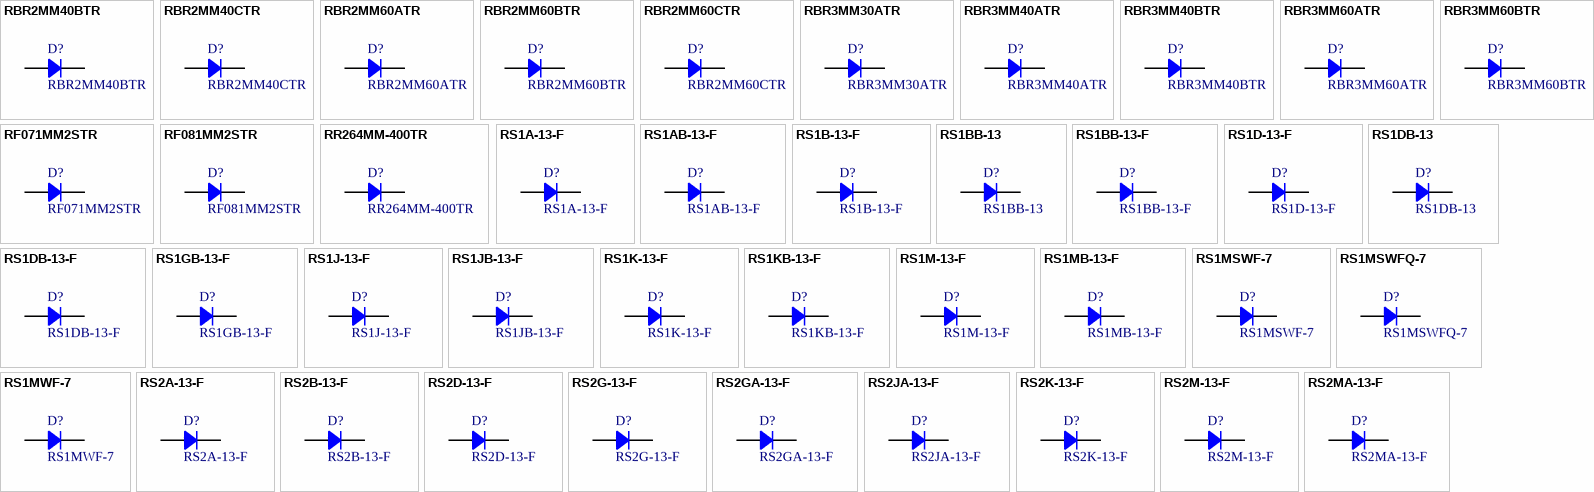
[diagram p11: symbols RBR2MM40BTR to RS2MA-13-F]

## RBR2MM40BTR
designator D?
DIODE SCHOTTKY 40V 2A PMDU; Manufacturer: Rohm Semiconductor; Current Reverse Leakage @ Vr: 80uA @ 40V; Voltage Forward (Vf): 560mV @ 2A; Part Number: RBR2MM40BTR; PartId: 29310; Supplier 1: Digi-Key; Supplier Part Number 1: RBR2MM40BCT-ND; ComponentLink1Description: Datasheet; ComponentLink1URL: http://rohmfs.rohm.com/en/products/databook/datasheet/discrete/diode/schottky_barrier/rbr2mm40b.pdf; ComponentLink2Description: Digi-Key Listing; ComponentLink2URL: https://www.digikey.com/product-detail/en/rohm-semiconductor/RBR2MM40BTR/RBR2MM40BCT-ND/5813379; Junction Operating Temperature: 150C (Max); Price: 0.55; Type: Schottky; Device Package: SOD-123F; Voltage DC Reverse (Vr): 40V; Current Rectified: 2A
footprint SOD123F
pins: 1, 2

## RBR2MM40CTR
designator D?
DIODE SCHOTTKY 40V 2A PMDU; Manufacturer: Rohm Semiconductor; Current Reverse Leakage @ Vr: 100uA @ 40V; Voltage Forward (Vf): 540mV @ 2A; Part Number: RBR2MM40CTR; PartId: 29281; Supplier 1: Digi-Key; Supplier Part Number 1: RBR2MM40CCT-ND; ComponentLink1Description: Datasheet; ComponentLink1URL: http://rohmfs.rohm.com/en/products/databook/datasheet/discrete/diode/schottky_barrier/rbr2mm40c.pdf; ComponentLink2Description: Digi-Key Listing; ComponentLink2URL: https://www.digikey.com/product-detail/en/rohm-semiconductor/RBR2MM40CTR/RBR2MM40CCT-ND/5813380; Junction Operating Temperature: 150C (Max); Price: 0.42; Type: Schottky; Device Package: SOD-123F; Voltage DC Reverse (Vr): 40V; Current Rectified: 2A
footprint SOD123F
pins: 1, 2

## RBR2MM60ATR
designator D?
DIODE SCHOTTKY 60V 2A PMDU; Manufacturer: Rohm Semiconductor; Current Reverse Leakage @ Vr: 75uA @ 60V; Voltage Forward (Vf): 650mV @ 2A; Part Number: RBR2MM60ATR; PartId: 29305; Supplier 1: Digi-Key; Supplier Part Number 1: RBR2MM60ACT-ND; ComponentLink1Description: Datasheet; ComponentLink1URL: http://rohmfs.rohm.com/en/products/databook/datasheet/discrete/diode/schottky_barrier/rbr2mm60a.pdf; ComponentLink2Description: Digi-Key Listing; ComponentLink2URL: https://www.digikey.com/product-detail/en/rohm-semiconductor/RBR2MM60ATR/RBR2MM60ACT-ND/5813381; Junction Operating Temperature: 150C (Max); Price: 0.53; Type: Schottky; Device Package: SOD-123F; Voltage DC Reverse (Vr): 60V; Current Rectified: 2A
footprint SOD123F
pins: 1, 2

## RBR2MM60BTR
designator D?
DIODE SCHOTTKY 60V 2A PMDU; Manufacturer: Rohm Semiconductor; Current Reverse Leakage @ Vr: 100uA @ 60V; Voltage Forward (Vf): 580mV @ 2A; Part Number: RBR2MM60BTR; PartId: 29311; Supplier 1: Digi-Key; Supplier Part Number 1: RBR2MM60BCT-ND; ComponentLink1Description: Datasheet; ComponentLink1URL: http://rohmfs.rohm.com/en/products/databook/datasheet/discrete/diode/schottky_barrier/rbr2mm60b.pdf; ComponentLink2Description: Digi-Key Listing; ComponentLink2URL: https://www.digikey.com/product-detail/en/rohm-semiconductor/RBR2MM60BTR/RBR2MM60BCT-ND/5813382; Junction Operating Temperature: 150C (Max); Price: 0.55; Type: Schottky; Device Package: SOD-123F; Voltage DC Reverse (Vr): 60V; Current Rectified: 2A
footprint SOD123F
pins: 1, 2

## RBR2MM60CTR
designator D?
DIODE SCHOTTKY 60V 2A PMDU; Manufacturer: Rohm Semiconductor; Current Reverse Leakage @ Vr: 120uA @ 60V; Voltage Forward (Vf): 550mV @ 2A; Part Number: RBR2MM60CTR; PartId: 29280; Supplier 1: Digi-Key; Supplier Part Number 1: RBR2MM60CCT-ND; ComponentLink1Description: Datasheet; ComponentLink1URL: http://rohmfs.rohm.com/en/products/databook/datasheet/discrete/diode/schottky_barrier/rbr2mm60c.pdf; ComponentLink2Description: Digi-Key Listing; ComponentLink2URL: https://www.digikey.com/product-detail/en/rohm-semiconductor/RBR2MM60CTR/RBR2MM60CCT-ND/5813383; Junction Operating Temperature: 150C (Max); Price: 0.42; Type: Schottky; Device Package: SOD-123F; Voltage DC Reverse (Vr): 60V; Current Rectified: 2A
footprint SOD123F
pins: 1, 2

## RBR3MM30ATR
designator D?
DIODE SCHOTTKY 30V 3A PMDU; Manufacturer: Rohm Semiconductor; Current Reverse Leakage @ Vr: 100uA @ 30V; Voltage Forward (Vf): 510mV @ 3A; Part Number: RBR3MM30ATR; PartId: 29329; Supplier 1: Digi-Key; Supplier Part Number 1: RBR3MM30ACT-ND; ComponentLink1Description: Datasheet; ComponentLink1URL: http://rohmfs.rohm.com/en/products/databook/datasheet/discrete/diode/schottky_barrier/rbr3mm30a.pdf; ComponentLink2Description: Digi-Key Listing; ComponentLink2URL: https://www.digikey.com/product-detail/en/rohm-semiconductor/RBR3MM30ATR/RBR3MM30ACT-ND/5813390; Junction Operating Temperature: 150C (Max); Price: 0.44; Type: Schottky; Device Package: SOD-123F; Voltage DC Reverse (Vr): 30V; Current Rectified: 3A
footprint SOD123F
pins: 1, 2

## RBR3MM40ATR
designator D?
DIODE SCHOTTKY 40V 3A PMDU; Manufacturer: Rohm Semiconductor; Current Reverse Leakage @ Vr: 80uA @ 40V; Voltage Forward (Vf): 620mV @ 3A; Part Number: RBR3MM40ATR; PartId: 29244; Supplier 1: Digi-Key; Supplier Part Number 1: RBR3MM40ACT-ND; ComponentLink1Description: Datasheet; ComponentLink1URL: http://rohmfs.rohm.com/en/products/databook/datasheet/discrete/diode/schottky_barrier/rbr3mm40a.pdf; ComponentLink2Description: Digi-Key Listing; ComponentLink2URL: https://www.digikey.com/product-detail/en/rohm-semiconductor/RBR3MM40ATR/RBR3MM40ACT-ND/5813391; Junction Operating Temperature: 150C (Max); Price: 0.4; Type: Schottky; Device Package: SOD-123F; Voltage DC Reverse (Vr): 40V; Current Rectified: 3A
footprint SOD123F
pins: 1, 2

## RBR3MM40BTR
designator D?
DIODE SCHOTTKY 40V 3A PMDU; Manufacturer: Rohm Semiconductor; Current Reverse Leakage @ Vr: 100uA @ 40V; Voltage Forward (Vf): 580mV @ 3A; Part Number: RBR3MM40BTR; PartId: 29284; Supplier 1: Digi-Key; Supplier Part Number 1: RBR3MM40BCT-ND; ComponentLink1Description: Datasheet; ComponentLink1URL: http://rohmfs.rohm.com/en/products/databook/datasheet/discrete/diode/schottky_barrier/rbr3mm40b.pdf; ComponentLink2Description: Digi-Key Listing; ComponentLink2URL: https://www.digikey.com/product-detail/en/rohm-semiconductor/RBR3MM40BTR/RBR3MM40BCT-ND/5813392; Junction Operating Temperature: 150C (Max); Price: 0.44; Type: Schottky; Device Package: SOD-123F; Voltage DC Reverse (Vr): 40V; Current Rectified: 3A
footprint SOD123F
pins: 1, 2

## RBR3MM60ATR
designator D?
DIODE SCHOTTKY 60V 3A PMDU; Manufacturer: Rohm Semiconductor; Current Reverse Leakage @ Vr: 100uA @ 60V; Voltage Forward (Vf): 660mV @ 3A; Part Number: RBR3MM60ATR; PartId: 29273; Supplier 1: Digi-Key; Supplier Part Number 1: RBR3MM60ACT-ND; ComponentLink1Description: Datasheet; ComponentLink1URL: http://rohmfs.rohm.com/en/products/databook/datasheet/discrete/diode/schottky_barrier/rbr3mm60a.pdf; ComponentLink2Description: Digi-Key Listing; ComponentLink2URL: https://www.digikey.com/product-detail/en/rohm-semiconductor/RBR3MM60ATR/RBR3MM60ACT-ND/5813393; Junction Operating Temperature: 150C (Max); Price: 0.4; Type: Schottky; Device Package: SOD-123F; Voltage DC Reverse (Vr): 60V; Current Rectified: 3A
footprint SOD123F
pins: 1, 2

## RBR3MM60BTR
designator D?
DIODE SCHOTTKY 60V 3A PMDU; Manufacturer: Rohm Semiconductor; Current Reverse Leakage @ Vr: 120uA @ 60V; Voltage Forward (Vf): 610mV @ 3A; Part Number: RBR3MM60BTR; PartId: 29286; Supplier 1: Digi-Key; Supplier Part Number 1: RBR3MM60BCT-ND; ComponentLink1Description: Datasheet; ComponentLink1URL: http://rohmfs.rohm.com/en/products/databook/datasheet/discrete/diode/schottky_barrier/rbr3mm60b.pdf; ComponentLink2Description: Digi-Key Listing; ComponentLink2URL: https://www.digikey.com/product-detail/en/rohm-semiconductor/RBR3MM60BTR/RBR3MM60BCT-ND/5813394; Junction Operating Temperature: 150C (Max); Price: 0.44; Type: Schottky; Device Package: SOD-123F; Voltage DC Reverse (Vr): 60V; Current Rectified: 3A
footprint SOD123F
pins: 1, 2

## RF071MM2STR
designator D?
DIODE GEN PURP 200V 700MA PMDU; Manufacturer: Rohm Semiconductor; Type: Standard; Current Reverse Leakage @ Vr: 10uA @ 200V; Reverse Recovery Time (trr): 25ns; Voltage Forward (Vf): 850mV @ 700mA; Part Number: RF071MM2STR; PartId: 29230; Supplier 1: Digi-Key; Supplier Part Number 1: RF071MM2SCT-ND; ComponentLink1Description: Datasheet; ComponentLink1URL: http://rohmfs.rohm.com/en/products/databook/datasheet/discrete/diode/fast_recovery/rf071mm2s.pdf; ComponentLink2Description: Digi-Key Listing; ComponentLink2URL: https://www.digikey.com/product-detail/en/rohm-semiconductor/RF071MM2STR/RF071MM2SCT-ND/5001884; Junction Operating Temperature: 150C (Max); Price: 0.54; Device Package: SOD-123F; Voltage DC Reverse (Vr): 200V; Current Rectified: 700mA
footprint SOD123F
pins: 1, 2

## RF081MM2STR
designator D?
DIODE GEN PURP 200V 800MA PMDU; Manufacturer: Rohm Semiconductor; Type: Standard; Current Reverse Leakage @ Vr: 10uA @ 200V; Reverse Recovery Time (trr): 25ns; Voltage Forward (Vf): 950mV @ 800mA; Part Number: RF081MM2STR; PartId: 29270; Supplier 1: Digi-Key; Supplier Part Number 1: RF081MM2SCT-ND; ComponentLink1Description: Datasheet; ComponentLink1URL: http://rohmfs.rohm.com/en/products/databook/datasheet/discrete/diode/fast_recovery/rf081mm2s.pdf; ComponentLink2Description: Digi-Key Listing; ComponentLink2URL: https://www.digikey.com/product-detail/en/rohm-semiconductor/RF081MM2STR/RF081MM2SCT-ND/5001885; Junction Operating Temperature: 150C (Max); Price: 0.39; Device Package: SOD-123F; Voltage DC Reverse (Vr): 200V; Current Rectified: 800mA
footprint SOD123F
pins: 1, 2

## RR264MM-400TR
designator D?
DIODE GEN PURP 400V 1A PMDU; Manufacturer: Rohm Semiconductor; Type: Standard; Current Reverse Leakage @ Vr: 10uA @ 400V; Voltage Forward (Vf): 1.1V @ 700mA; Part Number: RR264MM-400TR; PartId: 29179; Supplier 1: Digi-Key; Supplier Part Number 1: RR264MM-400CT-ND; ComponentLink1Description: Datasheet; ComponentLink1URL: http://rohmfs.rohm.com/en/products/databook/datasheet/discrete/diode/rectifier/rr264mm-400.pdf; ComponentLink2Description: Digi-Key Listing; ComponentLink2URL: https://www.digikey.com/product-detail/en/rohm-semiconductor/RR264MM-400TR/RR264MM-400CT-ND/5001886; Junction Operating Temperature: 150C (Max); Price: 0.29; Device Package: SOD-123F; Voltage DC Reverse (Vr): 400V; Current Rectified: 1A
footprint SOD123F
pins: 1, 2